# Altium footprint library AMP Footprints.PcbLib: 903 footprints (part 38 of 58)
Each footprint in its own frame and in the unit in brackets; x right, y up, seen from the top. Pads: shape width x height; smd on the part's side, far side on the other; paste and mask are expansions set on the pad; w line width, h text height; cw(c..) or ccw(c..) is an arc to the next point about the centre after c.
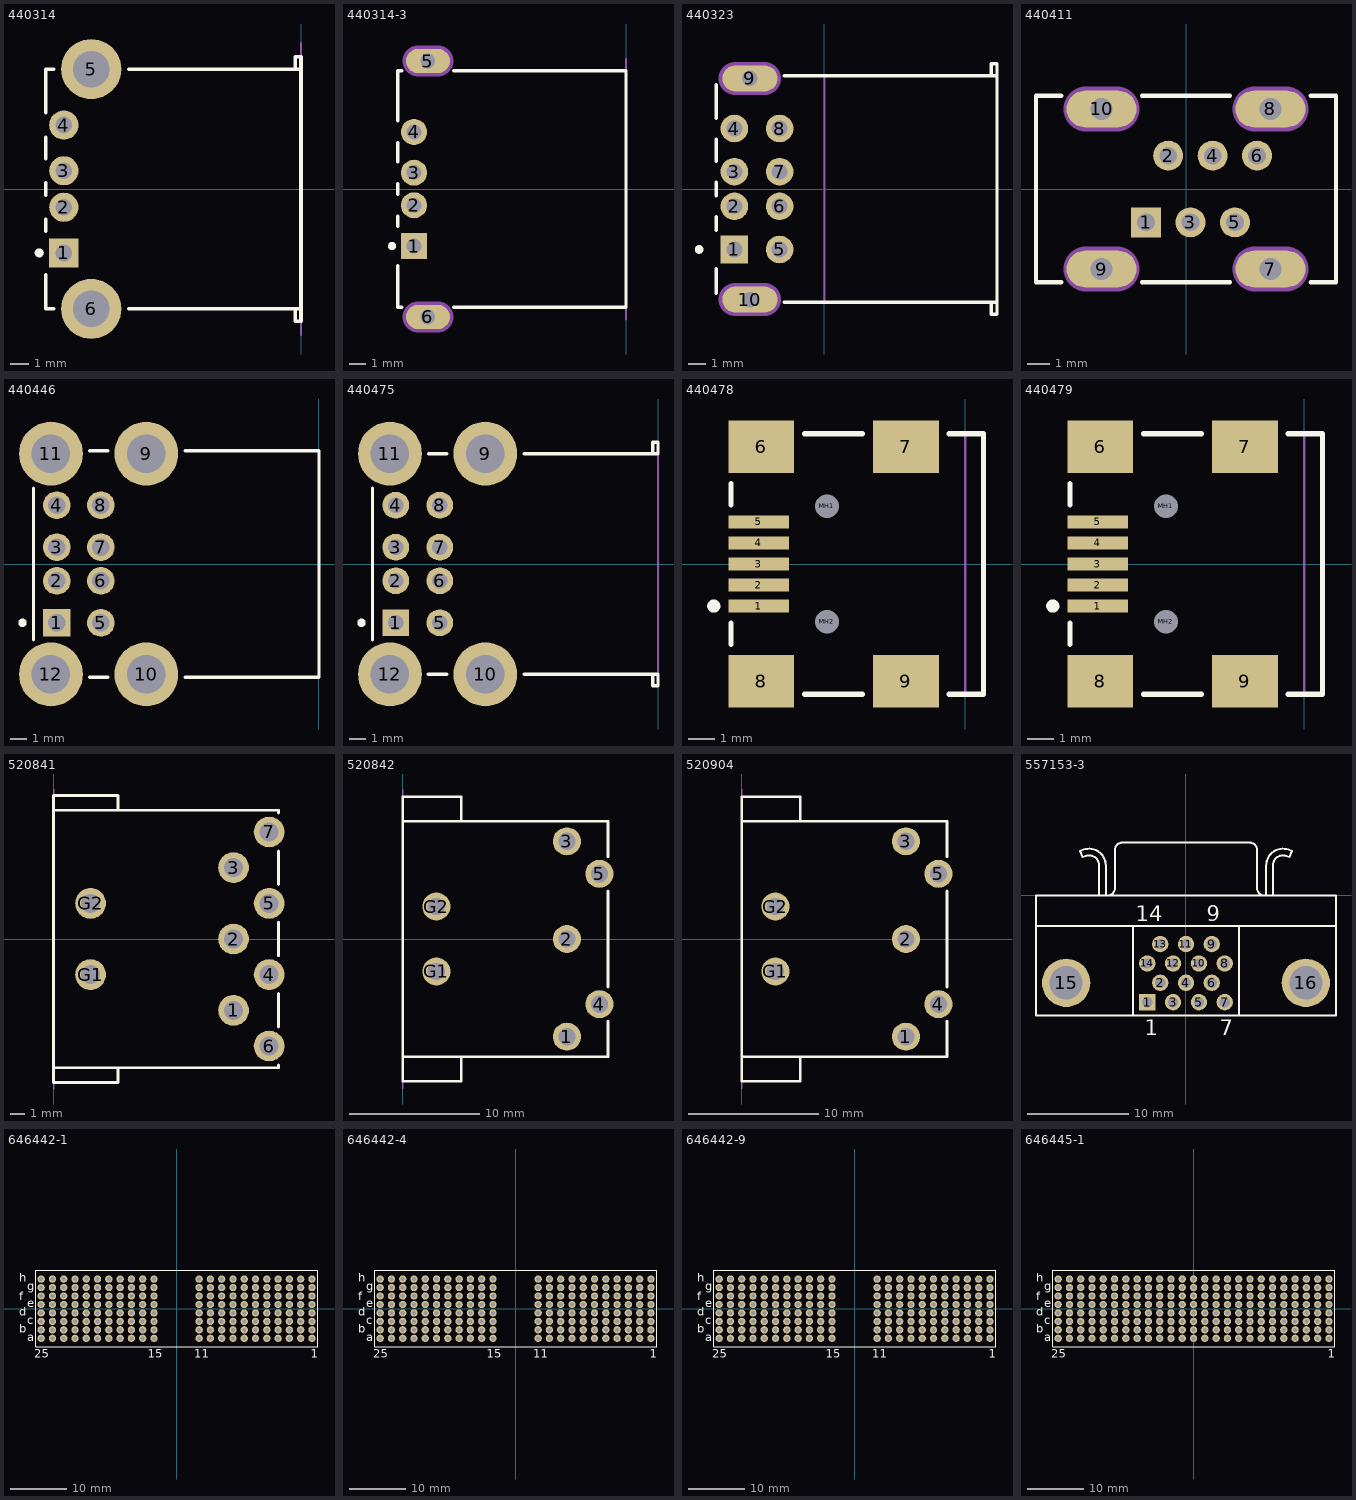
[diagram p37: the footprints below, top view; thin cyan lines are the x and y axes]

## 440314 [mm] "Connector; USB1.1, Series A, Reverse Type, Thru-Hole; 4 Position; Right Angle"
height 6.5
pads (6):
  rect 1.6x1.6 hole 0.92: 1(-13,-3.5)
  round 1.6 hole 0.92: 2(-13,-1) 3(-13,1) 4(-13,3.5)
  round 3.3 hole 2: 5(-11.5,6.57) 6(-11.5,-6.57)
Top Overlay:
  circle w0.25: c-14.35,-3.5 r0.125
  lines w0.2: -14,-4.7 -14,-6.565 -13.55,-6.565 ; -14,-2.3 -14,-1.67 ; -14,-0.33 -14,0.33 ; -14,1.67 -14,2.83 ; -14,4.17 -14,6.565 -13.55,6.565 ; -9.45,-6.565 0,-6.565 ; -9.45,6.565 0,6.565 ; -0.32,-6.565 -0.32,-7.25 0,-7.25 0,-6.565 ; -0.32,6.565 -0.32,7.25 0,7.25 0,6.565 ; 0,-6.565 0,6.565
Mechanical 1:
  lines w0.1: 0,-8 0,8
  text "PCB Edge" at -0.336,-6.303 h0.25

## 440314-3 [mm] "Connector; USB1.1, Series A, Reverse Type, Thru-Hole; 4 Position; Right Angle"
height 6.5
pads (6):
  rect 1.6x1.6 hole 0.92: 1(-13,-3.5)
  round 1.6 hole 0.92: 2(-13,-1) 3(-13,1) 4(-13,3.5)
  oval 2.7x1.5 hole 0.9: 5(-12.15,7.85) 6(-12.15,-7.85)
Top Overlay:
  circle w0.25: c-14.35,-3.5 r0.125
  lines w0.2: -14,-4.7 -14,-7.25 -13.74,-7.25 ; -14,-2.3 -14,-1.67 ; -14,-0.33 -14,0.33 ; -14,1.67 -14,2.83 ; -14,4.17 -14,7.25 -13.74,7.25 ; -10.56,-7.25 0,-7.25 0,7.25 -10.56,7.25
Mechanical 1:
  lines w0.1: 0,-8 0,8
  lines w0.9: -12.75,-7.85 -12.15,-7.85 -11.55,-7.85 ; -12.75,7.85 -11.55,7.85
  text "Mech 2 - Clearance, move to internal plane if present" at -14,9.167 h0.3
  text "Mech 1 - Slot cut-out" at -14,9.667 h0.3
  text "Assign keep-out area to slot" at -14,11.167 h0.3
  text "Slot 0.9x2.1mm, PTH" at -14,10.167 h0.3
  text "Alert PCB fab to slot details" at -14,10.667 h0.3
  text "PCB Edge" at -0.324,-6.966 h0.25
Mechanical 2:
  lines w1.916: -12.75,-7.85 -11.55,-7.85 ; -12.75,7.85 -11.55,7.85

## 440323 [mm] "Connector; USB1.1, Type A, Thru-Hole; 4x4 Position; Right Angle"
height 15.51
pads (10):
  rect 1.6x1.6 hole 0.92: 1(-5.21,-3.5)
  round 1.6 hole 0.92: 2(-5.21,-1) 3(-5.21,1) 4(-5.21,3.5) 5(-2.59,-3.5) 6(-2.59,-1) 7(-2.59,1) 8(-2.59,3.5)
  oval 3.2x1.5 hole 0.9: 9(-4.31,6.4) 10(-4.31,-6.4)
Top Overlay:
  circle w0.25: c-7.25,-3.5 r0.125
  lines w0.2: -6.25,-6.03 -6.25,-4.62 ; -6.25,-2.38 -6.25,-1.61 ; -6.25,-0.4 -6.25,0.4 ; -6.25,1.61 -6.25,2.88 ; -6.25,4.1 -6.25,6.03 ; -2.32,-6.55 9.99,-6.55 ; -2.32,6.55 9.99,6.55 ; 9.67,-6.55 9.67,-7.25 9.99,-7.25 9.99,-6.55 ; 9.67,6.55 9.67,7.25 9.99,7.25 9.99,6.55 ; 9.99,-6.55 9.99,6.55
Mechanical 1:
  lines w0.1: 0,-6.55 0,6.55
  lines w0.9: -5.16,-6.4 -3.46,-6.4 ; -5.16,6.4 -3.46,6.4
  text "PCB Edge" at 0.347,-6.248 h0.2
  text "Alert PCB fab to slot details" at -6.16,9.217 h0.3
  text "Slot 0.9x2.6mm, PTH" at -6.16,8.717 h0.3
  text "Assign keep-out area to slot" at -6.16,9.717 h0.3
  text "Mech 1 - Slot cut-out" at -6.16,8.217 h0.3
  text "Mech 2 - Clearance, move to internal plane if present" at -6.16,7.717 h0.3
Mechanical 2:
  lines w1.916: -5.16,-6.4 -3.46,-6.4 ; -5.16,6.4 -3.46,6.4

## 440411 [mm] "Connector; IEEE1394, Thru-Hole; 6 Position; Vertical"
height 16.5
pads (10):
  rect 1.35x1.35 hole 0.8: 1(-1.8,-1.5)
  round 1.35 hole 0.8: 2(-0.8,1.5) 3(0.2,-1.5) 4(1.2,1.5) 5(2.2,-1.5) 6(3.2,1.5)
  oval 3.15x1.65 hole 1: 7(3.8,-3.6) 8(3.8,3.6) 9(-3.8,-3.6) 10(-3.8,3.6)
Top Overlay:
  lines w0.2: -5.62,-4.2 -6.75,-4.2 -6.75,4.2 -5.62,4.2 ; -1.98,-4.2 1.98,-4.2 ; -1.98,4.2 1.98,4.2 ; 5.62,-4.2 6.75,-4.2 6.75,4.2 5.62,4.2
Mechanical 1:
  lines w1: -4.5,-3.6 -3.1,-3.6 ; -4.5,3.6 -3.1,3.6 ; 3.1,-3.6 4.5,-3.6 ; 3.1,3.6 4.5,3.6
  text "Alert PCB fab to slot details" at -6.877,6.395 h0.3
  text "Slot 1x2.5mm, PTH" at -6.876,5.895 h0.3
  text "Assign keep-out area to slot" at -6.877,6.895 h0.3
  text "Mech 1 - Slot cut-out" at -6.877,5.395 h0.3
  text "Mech 2 - Clearance, move to internal plane if present" at -6.877,4.895 h0.3
Mechanical 2:
  lines w2.016: -4.5,-3.6 -3.1,-3.6 ; -4.5,3.6 -3.1,3.6 ; 3.1,-3.6 4.5,-3.6 ; 3.1,3.6 4.5,3.6

## 440446 [mm] "Connector; USB1.1, Type A, Thru-Hole; 4x4 Position; Right Angle"
height 15.82
pads (12):
  rect 1.65x1.65 hole 1.02: 1(-15.6,-3.5)
  round 1.65 hole 1.02: 2(-15.6,-1) 3(-15.6,1) 4(-15.6,3.5) 5(-12.98,-3.5) 6(-12.98,-1) 7(-12.98,1) 8(-12.98,3.5)
  round 3.8 hole 2.3: 9(-10.27,6.57) 10(-10.27,-6.57) 11(-15.95,6.57) 12(-15.95,-6.57)
Top Overlay:
  circle w0.25: c-17.64,-3.5 r0.125
  lines w0.2: -16.99,-4.51 -16.99,4.51 ; -13.65,-6.75 -12.57,-6.75 ; -13.65,6.75 -12.57,6.75 ; -7.97,-6.75 0.01,-6.75 0.01,6.75 -7.97,6.75

## 440475 [mm] "Connector; USB1.1, Type A, Thru-Hole; 4x4 Position; Right Angle"
height 15.82
pads (12):
  rect 1.6x1.6 hole 0.92: 1(-15.61,-3.5)
  round 1.6 hole 0.92: 2(-15.61,-1) 3(-15.61,1) 4(-15.61,3.5) 5(-12.99,-3.5) 6(-12.99,-1) 7(-12.99,1) 8(-12.99,3.5)
  round 3.8 hole 2.3: 9(-10.28,6.57) 10(-10.28,-6.57) 11(-15.96,6.57) 12(-15.96,-6.57)
Top Overlay:
  circle w0.25: c-17.65,-3.5 r0.125
  lines w0.2: -17,-4.51 -17,4.51 ; -13.68,-6.57 -12.58,-6.57 ; -13.66,6.57 -12.58,6.57 ; -7.97,-6.57 0,-6.57 0,-7.25 -0.32,-7.25 -0.32,-6.57 ; -7.97,6.57 0,6.57 0,7.25 -0.32,7.25 -0.32,6.57
Mechanical 1:
  lines w0.1: 0,-6.57 0,6.57
  text "PCB Edge" at -0.368,-6.15 h0.2

## 440478 [mm] "Connector; USB2.0, Type A, SM; 5 Position; Right Angle"
height 3.9
pads (11):
  rect 2.3x0.5 smd: 1(-7.85,-1.6) 2(-7.85,-0.8) 3(-7.85,0) 4(-7.85,0.8) 5(-7.85,1.6)
  rect 2.5x2 smd: 6(-7.75,4.45) 7(-2.25,4.45) 8(-7.75,-4.45) 9(-2.25,-4.45)
  round 0.6 hole 0.9 unplated: MH1(-5.25,2.2) MH2(-5.25,-2.2)
Top Overlay:
  circle w0.25: c-9.55,-1.6 r0.125
  lines w0.2: -8.9,-3.05 -8.9,-2.25 ; -8.9,2.25 -8.9,3.05 ; -6.1,-4.95 -3.9,-4.95 ; -6.1,4.95 -3.9,4.95 ; -0.6,-4.95 0.7,-4.95 0.7,4.95 -0.6,4.95
Mechanical 1:
  lines w0.1: 0,-4.95 0,4.95
  text "PCB Edge" at 0.432,-4.036 h0.25

## 440479 [mm] "Connector; USB2.0, Type AB, SM; 5 Position; Right Angle"
height 3.9
pads (11):
  rect 2.3x0.5 smd: 1(-7.85,-1.6) 2(-7.85,-0.8) 3(-7.85,0) 4(-7.85,0.8) 5(-7.85,1.6)
  rect 2.5x2 smd: 6(-7.75,4.45) 7(-2.25,4.45) 8(-7.75,-4.45) 9(-2.25,-4.45)
  round 0.6 hole 0.9 unplated: MH1(-5.25,2.2) MH2(-5.25,-2.2)
Top Overlay:
  circle w0.25: c-9.55,-1.6 r0.125
  lines w0.2: -8.9,-3.05 -8.9,-2.25 ; -8.9,2.25 -8.9,3.05 ; -6.1,-4.95 -3.9,-4.95 ; -6.1,4.95 -3.9,4.95 ; -0.6,-4.95 0.7,-4.95 0.7,4.95 -0.6,4.95
Mechanical 1:
  lines w0.1: 0,-4.95 0,4.95
  text "PCB Edge" at 0.432,-4.036 h0.25

## 520841 [mm] "Connector; Circular DIN, Thru-Hole; 7 Position; Right Angle; Pitch 2.49/2.51 mm; Body 18.03 x 15.75 x 20.83 mm (WxTxH), Shielded"
height 20.83
pads (9):
  round 2.15 hole 1.32: 1(12.6,-5) 2(12.6,0) 3(12.6,5) 4(15.09,-2.49) 5(15.09,2.49) 6(15.09,-7.49) 7(15.09,7.49) G1(2.59,-2.49) G2(2.59,2.49)
Top Overlay:
  lines w0.2: 4.5,-9.015 4.5,-10.035 0,-10.035 0,-9.015 ; 4.5,9.015 4.5,10.035 0,10.035 0,9.015 ; 15.75,-8.81 15.75,-9.015 0,-9.015 ; 15.75,-6.17 15.75,-3.81 ; 15.75,-1.17 15.75,1.17 ; 15.75,3.81 15.75,6.17 ; 15.75,8.81 15.75,9.015 0,9.015 ; 0,-9.015 0,9.015
Mechanical 1:
  lines w0.1: 0,-10.5 0,10.5
  text "PCB Edge" at 0.6,-8.6 h0.25

## 520842 [mm] "Connector; Circular DIN, Thru-Hole; 5 Position; Right Angle; Pitch 2.49/2.51 mm; Body 18.03 x 15.75 x 20.83 mm (WxTxH), Shielded"
height 20.83
pads (7):
  round 2.15 hole 1.32: 1(12.6,-7.49) 2(12.6,0) 3(12.6,7.49) 4(15.09,-5) 5(15.09,5) G1(2.59,-2.49) G2(2.59,2.49)
Top Overlay:
  lines w0.2: 4.5,-9.015 4.5,-10.92 0,-10.92 0,-9.015 ; 4.5,9.015 4.5,10.92 0,10.92 0,9.015 ; 15.75,-6.32 15.75,-9.015 0,-9.015 ; 15.75,-3.68 15.75,3.68 ; 15.75,6.32 15.75,9.015 0,9.015 ; 0,-9.015 0,9.015
Mechanical 1:
  lines w0.1: 0,-11.5 0,11.5
  text "PCB Edge" at 0.6,-8.6 h0.25

## 520904 [mm] "Connector; Circular DIN, Thru-Hole; 5 Position; Right Angle; Pitch 2.49/2.51 mm; Body 18.03 x 15.75 x 20.83 mm (WxTxH), Shielded"
height 20.83
pads (7):
  round 2.15 hole 1.32: 1(12.6,-7.49) 2(12.6,0) 3(12.6,7.49) 4(15.09,-5) 5(15.09,5) G1(2.59,-2.49) G2(2.59,2.49)
Top Overlay:
  lines w0.2: 4.5,-9.015 4.5,-10.92 0,-10.92 0,-9.015 ; 4.5,9.015 4.5,10.92 0,10.92 0,9.015 ; 15.75,-6.32 15.75,-9.015 0,-9.015 ; 15.75,-3.68 15.75,3.68 ; 15.75,6.32 15.75,9.015 0,9.015 ; 0,-9.015 0,9.015
Mechanical 1:
  lines w0.1: 0,-11.5 0,11.5
  text "PCB Edge" at 0.6,-8.6 h0.25

## 557153-3 [mm] "Connector; CHAMP Miniature Ribbon 050 Series II; 14 Position; Right Angle"
height 10.2
pads (16):
  rect 1.61x1.61 hole 1.01: 1(-3.81,-10.505)
  round 1.61 hole 1.01: 2(-2.54,-8.6) 3(-1.27,-10.505) 4(0,-8.6) 5(1.27,-10.505) 6(2.54,-8.6) 7(3.81,-10.505) 8(3.81,-6.695) 9(2.54,-4.79) 10(1.27,-6.695) 11(0,-4.79) 12(-1.27,-6.695) 13(-2.54,-4.79) 14(-3.81,-6.695)
  round 4.76 hole 3.26: 15(-11.8,-8.6) 16(11.8,-8.6)
Top Overlay:
  lines w0.2: -14.77,-3 14.77,-3 ; -10.21,3.79 -10.45,4.4 -10.115,4.503 cw(c-9.55,2.95) -7.897,2.95 ; -10.2,3.8 -9.85,3.9 ; -9.892,3.891 cw(c-9.55,2.95) -8.549,2.95 -8.549,0 ; -7.9,0 -7.9,2.95 ; -7.695,0.005 ccw(c-7.695,0.7) -7,0.7 -7,4.5 ; -6.995,4.505 cw(c-6.3,4.505) -6.3,5.2 6.3,5.2 cw(c6.3,4.505) 6.995,4.505 ; -5.2,-11.8 -5.2,-3 ; 5.2,-11.8 5.2,-3 ; 7,4.5 7,0.7 ccw(c7.695,0.7) 7.695,0.005 ; 7.897,2.95 cw(c9.55,2.95) 10.115,4.503 10.45,4.4 10.21,3.79 ; 7.9,0 7.9,2.95 ; 8.549,0 8.549,2.95 cw(c9.55,2.95) 9.892,3.891 ; 9.85,3.9 10.2,3.8 ; -14.77,-11.8 -14.77,0 14.77,0 14.77,-11.8 -14.77,-11.8
  text "1" at -4.06,-13.775 h1.5
  text "7" at 3.31,-13.775 h1.5
  text "14" at -4.935,-2.525 h1.5
  text "9" at 2.04,-2.525 h1.5

## 646442-1 [mm] "Connector; CompactPCI; 176 Position; Right Angle"
height 14.2
pads (176):
  round 1.3 hole 0.7: A1(24,-5.25) A2(22,-5.25) A3(20,-5.25) A4(18,-5.25) A5(16,-5.25) A6(14,-5.25) A7(12,-5.25) A8(10,-5.25) A9(8,-5.25) A10(6,-5.25) A11(4,-5.25) A15(-4,-5.25) A16(-6,-5.25) A17(-8,-5.25) A18(-10,-5.25) A19(-12,-5.25) A20(-14,-5.25) A21(-16,-5.25) A22(-18,-5.25) A23(-20,-5.25) A24(-22,-5.25) A25(-24,-5.25) B1(24,-3.75) B2(22,-3.75) B3(20,-3.75) B4(18,-3.75) B5(16,-3.75) B6(14,-3.75) B7(12,-3.75) B8(10,-3.75) B9(8,-3.75) B10(6,-3.75) B11(4,-3.75) B15(-4,-3.75) B16(-6,-3.75) B17(-8,-3.75) B18(-10,-3.75) B19(-12,-3.75) B20(-14,-3.75) B21(-16,-3.75) B22(-18,-3.75) B23(-20,-3.75) B24(-22,-3.75) B25(-24,-3.75) C1(24,-2.25) C2(22,-2.25) C3(20,-2.25) C4(18,-2.25) C5(16,-2.25) C6(14,-2.25) C7(12,-2.25) C8(10,-2.25) C9(8,-2.25) C10(6,-2.25) C11(4,-2.25) C15(-4,-2.25) C16(-6,-2.25) C17(-8,-2.25) C18(-10,-2.25) C19(-12,-2.25) C20(-14,-2.25) C21(-16,-2.25) C22(-18,-2.25) C23(-20,-2.25) C24(-22,-2.25) C25(-24,-2.25) D1(24,-0.75) D2(22,-0.75) D3(20,-0.75) D4(18,-0.75) D5(16,-0.75) D6(14,-0.75) D7(12,-0.75) D8(10,-0.75) D9(8,-0.75) D10(6,-0.75) D11(4,-0.75) D15(-4,-0.75) D16(-6,-0.75) D17(-8,-0.75) D18(-10,-0.75) D19(-12,-0.75) D20(-14,-0.75) D21(-16,-0.75) D22(-18,-0.75) D23(-20,-0.75) D24(-22,-0.75) D25(-24,-0.75) E1(24,0.75) E2(22,0.75) E3(20,0.75) E4(18,0.75) E5(16,0.75) E6(14,0.75) E7(12,0.75) E8(10,0.75) E9(8,0.75) E10(6,0.75) E11(4,0.75) E15(-4,0.75) E16(-6,0.75) E17(-8,0.75) E18(-10,0.75) E19(-12,0.75) E20(-14,0.75) E21(-16,0.75) E22(-18,0.75) E23(-20,0.75) E24(-22,0.75) E25(-24,0.75) F1(24,2.25) F2(22,2.25) F3(20,2.25) F4(18,2.25) F5(16,2.25) F6(14,2.25) F7(12,2.25) F8(10,2.25) F9(8,2.25) F10(6,2.25) F11(4,2.25) F15(-4,2.25) F16(-6,2.25) F17(-8,2.25) F18(-10,2.25) F19(-12,2.25) F20(-14,2.25) F21(-16,2.25) F22(-18,2.25) F23(-20,2.25) F24(-22,2.25) F25(-24,2.25) G1(24,3.75) G2(22,3.75) G3(20,3.75) G4(18,3.75) G5(16,3.75) G6(14,3.75) G7(12,3.75) G8(10,3.75) G9(8,3.75) G10(6,3.75) G11(4,3.75) G15(-4,3.75) G16(-6,3.75) G17(-8,3.75) G18(-10,3.75) G19(-12,3.75) G20(-14,3.75) G21(-16,3.75) G22(-18,3.75) G23(-20,3.75) G24(-22,3.75) G25(-24,3.75) H1(24,5.25) H2(22,5.25) H3(20,5.25) H4(18,5.25) H5(16,5.25) H6(14,5.25) H7(12,5.25) H8(10,5.25) H9(8,5.25) H10(6,5.25) H11(4,5.25) H15(-4,5.25) H16(-6,5.25) H17(-8,5.25) H18(-10,5.25) H19(-12,5.25) H20(-14,5.25) H21(-16,5.25) H22(-18,5.25) H23(-20,5.25) H24(-22,5.25) H25(-24,5.25)
Top Overlay:
  lines w0.2: -25,-6.75 -25,6.85 25,6.85 25,-6.75 -25,-6.75
  text "a" at -26.475,-5.75 h1.5
  text "b" at -27.925,-4.25 h1.5
  text "c" at -26.475,-2.75 h1.5
  text "e" at -26.475,0.25 h1.5
  text "g" at -26.475,3.237 h1.5
  text "d" at -27.925,-1.25 h1.5
  text "f" at -27.925,1.475 h1.5
  text "h" at -27.925,4.75 h1.5
  text "11" at 3.125,-8.725 h1.5
  text "1" at 23.75,-8.725 h1.5
  text "15" at -5.125,-8.725 h1.5
  text "25" at -25.25,-8.725 h1.5

## 646442-4 [mm] "Connector; CompactPCI; 176 Position; Right Angle"
height 14.2
pads (176):
  round 1.3 hole 0.7: A1(24,-5.25) A2(22,-5.25) A3(20,-5.25) A4(18,-5.25) A5(16,-5.25) A6(14,-5.25) A7(12,-5.25) A8(10,-5.25) A9(8,-5.25) A10(6,-5.25) A11(4,-5.25) A15(-4,-5.25) A16(-6,-5.25) A17(-8,-5.25) A18(-10,-5.25) A19(-12,-5.25) A20(-14,-5.25) A21(-16,-5.25) A22(-18,-5.25) A23(-20,-5.25) A24(-22,-5.25) A25(-24,-5.25) B1(24,-3.75) B2(22,-3.75) B3(20,-3.75) B4(18,-3.75) B5(16,-3.75) B6(14,-3.75) B7(12,-3.75) B8(10,-3.75) B9(8,-3.75) B10(6,-3.75) B11(4,-3.75) B15(-4,-3.75) B16(-6,-3.75) B17(-8,-3.75) B18(-10,-3.75) B19(-12,-3.75) B20(-14,-3.75) B21(-16,-3.75) B22(-18,-3.75) B23(-20,-3.75) B24(-22,-3.75) B25(-24,-3.75) C1(24,-2.25) C2(22,-2.25) C3(20,-2.25) C4(18,-2.25) C5(16,-2.25) C6(14,-2.25) C7(12,-2.25) C8(10,-2.25) C9(8,-2.25) C10(6,-2.25) C11(4,-2.25) C15(-4,-2.25) C16(-6,-2.25) C17(-8,-2.25) C18(-10,-2.25) C19(-12,-2.25) C20(-14,-2.25) C21(-16,-2.25) C22(-18,-2.25) C23(-20,-2.25) C24(-22,-2.25) C25(-24,-2.25) D1(24,-0.75) D2(22,-0.75) D3(20,-0.75) D4(18,-0.75) D5(16,-0.75) D6(14,-0.75) D7(12,-0.75) D8(10,-0.75) D9(8,-0.75) D10(6,-0.75) D11(4,-0.75) D15(-4,-0.75) D16(-6,-0.75) D17(-8,-0.75) D18(-10,-0.75) D19(-12,-0.75) D20(-14,-0.75) D21(-16,-0.75) D22(-18,-0.75) D23(-20,-0.75) D24(-22,-0.75) D25(-24,-0.75) E1(24,0.75) E2(22,0.75) E3(20,0.75) E4(18,0.75) E5(16,0.75) E6(14,0.75) E7(12,0.75) E8(10,0.75) E9(8,0.75) E10(6,0.75) E11(4,0.75) E15(-4,0.75) E16(-6,0.75) E17(-8,0.75) E18(-10,0.75) E19(-12,0.75) E20(-14,0.75) E21(-16,0.75) E22(-18,0.75) E23(-20,0.75) E24(-22,0.75) E25(-24,0.75) F1(24,2.25) F2(22,2.25) F3(20,2.25) F4(18,2.25) F5(16,2.25) F6(14,2.25) F7(12,2.25) F8(10,2.25) F9(8,2.25) F10(6,2.25) F11(4,2.25) F15(-4,2.25) F16(-6,2.25) F17(-8,2.25) F18(-10,2.25) F19(-12,2.25) F20(-14,2.25) F21(-16,2.25) F22(-18,2.25) F23(-20,2.25) F24(-22,2.25) F25(-24,2.25) G1(24,3.75) G2(22,3.75) G3(20,3.75) G4(18,3.75) G5(16,3.75) G6(14,3.75) G7(12,3.75) G8(10,3.75) G9(8,3.75) G10(6,3.75) G11(4,3.75) G15(-4,3.75) G16(-6,3.75) G17(-8,3.75) G18(-10,3.75) G19(-12,3.75) G20(-14,3.75) G21(-16,3.75) G22(-18,3.75) G23(-20,3.75) G24(-22,3.75) G25(-24,3.75) H1(24,5.25) H2(22,5.25) H3(20,5.25) H4(18,5.25) H5(16,5.25) H6(14,5.25) H7(12,5.25) H8(10,5.25) H9(8,5.25) H10(6,5.25) H11(4,5.25) H15(-4,5.25) H16(-6,5.25) H17(-8,5.25) H18(-10,5.25) H19(-12,5.25) H20(-14,5.25) H21(-16,5.25) H22(-18,5.25) H23(-20,5.25) H24(-22,5.25) H25(-24,5.25)
Top Overlay:
  lines w0.2: -25,-6.75 -25,6.85 25,6.85 25,-6.75 -25,-6.75
  text "a" at -26.475,-5.75 h1.5
  text "b" at -27.925,-4.25 h1.5
  text "c" at -26.475,-2.75 h1.5
  text "e" at -26.475,0.25 h1.5
  text "g" at -26.475,3.237 h1.5
  text "d" at -27.925,-1.25 h1.5
  text "f" at -27.925,1.475 h1.5
  text "h" at -27.925,4.75 h1.5
  text "11" at 3.125,-8.725 h1.5
  text "1" at 23.75,-8.725 h1.5
  text "15" at -5.125,-8.725 h1.5
  text "25" at -25.25,-8.725 h1.5

## 646442-9 [mm] "Connector; CompactPCI; 176 Position; Right Angle"
height 14.2
pads (176):
  round 1.3 hole 0.7: A1(24,-5.25) A2(22,-5.25) A3(20,-5.25) A4(18,-5.25) A5(16,-5.25) A6(14,-5.25) A7(12,-5.25) A8(10,-5.25) A9(8,-5.25) A10(6,-5.25) A11(4,-5.25) A15(-4,-5.25) A16(-6,-5.25) A17(-8,-5.25) A18(-10,-5.25) A19(-12,-5.25) A20(-14,-5.25) A21(-16,-5.25) A22(-18,-5.25) A23(-20,-5.25) A24(-22,-5.25) A25(-24,-5.25) B1(24,-3.75) B2(22,-3.75) B3(20,-3.75) B4(18,-3.75) B5(16,-3.75) B6(14,-3.75) B7(12,-3.75) B8(10,-3.75) B9(8,-3.75) B10(6,-3.75) B11(4,-3.75) B15(-4,-3.75) B16(-6,-3.75) B17(-8,-3.75) B18(-10,-3.75) B19(-12,-3.75) B20(-14,-3.75) B21(-16,-3.75) B22(-18,-3.75) B23(-20,-3.75) B24(-22,-3.75) B25(-24,-3.75) C1(24,-2.25) C2(22,-2.25) C3(20,-2.25) C4(18,-2.25) C5(16,-2.25) C6(14,-2.25) C7(12,-2.25) C8(10,-2.25) C9(8,-2.25) C10(6,-2.25) C11(4,-2.25) C15(-4,-2.25) C16(-6,-2.25) C17(-8,-2.25) C18(-10,-2.25) C19(-12,-2.25) C20(-14,-2.25) C21(-16,-2.25) C22(-18,-2.25) C23(-20,-2.25) C24(-22,-2.25) C25(-24,-2.25) D1(24,-0.75) D2(22,-0.75) D3(20,-0.75) D4(18,-0.75) D5(16,-0.75) D6(14,-0.75) D7(12,-0.75) D8(10,-0.75) D9(8,-0.75) D10(6,-0.75) D11(4,-0.75) D15(-4,-0.75) D16(-6,-0.75) D17(-8,-0.75) D18(-10,-0.75) D19(-12,-0.75) D20(-14,-0.75) D21(-16,-0.75) D22(-18,-0.75) D23(-20,-0.75) D24(-22,-0.75) D25(-24,-0.75) E1(24,0.75) E2(22,0.75) E3(20,0.75) E4(18,0.75) E5(16,0.75) E6(14,0.75) E7(12,0.75) E8(10,0.75) E9(8,0.75) E10(6,0.75) E11(4,0.75) E15(-4,0.75) E16(-6,0.75) E17(-8,0.75) E18(-10,0.75) E19(-12,0.75) E20(-14,0.75) E21(-16,0.75) E22(-18,0.75) E23(-20,0.75) E24(-22,0.75) E25(-24,0.75) F1(24,2.25) F2(22,2.25) F3(20,2.25) F4(18,2.25) F5(16,2.25) F6(14,2.25) F7(12,2.25) F8(10,2.25) F9(8,2.25) F10(6,2.25) F11(4,2.25) F15(-4,2.25) F16(-6,2.25) F17(-8,2.25) F18(-10,2.25) F19(-12,2.25) F20(-14,2.25) F21(-16,2.25) F22(-18,2.25) F23(-20,2.25) F24(-22,2.25) F25(-24,2.25) G1(24,3.75) G2(22,3.75) G3(20,3.75) G4(18,3.75) G5(16,3.75) G6(14,3.75) G7(12,3.75) G8(10,3.75) G9(8,3.75) G10(6,3.75) G11(4,3.75) G15(-4,3.75) G16(-6,3.75) G17(-8,3.75) G18(-10,3.75) G19(-12,3.75) G20(-14,3.75) G21(-16,3.75) G22(-18,3.75) G23(-20,3.75) G24(-22,3.75) G25(-24,3.75) H1(24,5.25) H2(22,5.25) H3(20,5.25) H4(18,5.25) H5(16,5.25) H6(14,5.25) H7(12,5.25) H8(10,5.25) H9(8,5.25) H10(6,5.25) H11(4,5.25) H15(-4,5.25) H16(-6,5.25) H17(-8,5.25) H18(-10,5.25) H19(-12,5.25) H20(-14,5.25) H21(-16,5.25) H22(-18,5.25) H23(-20,5.25) H24(-22,5.25) H25(-24,5.25)
Top Overlay:
  lines w0.2: -25,-6.75 -25,6.85 25,6.85 25,-6.75 -25,-6.75
  text "a" at -26.475,-5.75 h1.5
  text "b" at -27.925,-4.25 h1.5
  text "c" at -26.475,-2.75 h1.5
  text "e" at -26.475,0.25 h1.5
  text "g" at -26.475,3.237 h1.5
  text "d" at -27.925,-1.25 h1.5
  text "f" at -27.925,1.475 h1.5
  text "h" at -27.925,4.75 h1.5
  text "11" at 3.125,-8.725 h1.5
  text "1" at 23.75,-8.725 h1.5
  text "15" at -5.125,-8.725 h1.5
  text "25" at -25.25,-8.725 h1.5

## 646445-1 [mm] "Connector; CompactPCI; 200 Position; Right Angle"
height 13.7
pads (200):
  round 1.3 hole 0.7: A1(24,-5.25) A2(22,-5.25) A3(20,-5.25) A4(18,-5.25) A5(16,-5.25) A6(14,-5.25) A7(12,-5.25) A8(10,-5.25) A9(8,-5.25) A10(6,-5.25) A11(4,-5.25) A12(2,-5.25) A13(0,-5.25) A14(-2,-5.25) A15(-4,-5.25) A16(-6,-5.25) A17(-8,-5.25) A18(-10,-5.25) A19(-12,-5.25) A20(-14,-5.25) A21(-16,-5.25) A22(-18,-5.25) A23(-20,-5.25) A24(-22,-5.25) A25(-24,-5.25) B1(24,-3.75) B2(22,-3.75) B3(20,-3.75) B4(18,-3.75) B5(16,-3.75) B6(14,-3.75) B7(12,-3.75) B8(10,-3.75) B9(8,-3.75) B10(6,-3.75) B11(4,-3.75) B12(2,-3.75) B13(0,-3.75) B14(-2,-3.75) B15(-4,-3.75) B16(-6,-3.75) B17(-8,-3.75) B18(-10,-3.75) B19(-12,-3.75) B20(-14,-3.75) B21(-16,-3.75) B22(-18,-3.75) B23(-20,-3.75) B24(-22,-3.75) B25(-24,-3.75) C1(24,-2.25) C2(22,-2.25) C3(20,-2.25) C4(18,-2.25) C5(16,-2.25) C6(14,-2.25) C7(12,-2.25) C8(10,-2.25) C9(8,-2.25) C10(6,-2.25) C11(4,-2.25) C12(2,-2.25) C13(0,-2.25) C14(-2,-2.25) C15(-4,-2.25) C16(-6,-2.25) C17(-8,-2.25) C18(-10,-2.25) C19(-12,-2.25) C20(-14,-2.25) C21(-16,-2.25) C22(-18,-2.25) C23(-20,-2.25) C24(-22,-2.25) C25(-24,-2.25) D1(24,-0.75) D2(22,-0.75) D3(20,-0.75) D4(18,-0.75) D5(16,-0.75) D6(14,-0.75) D7(12,-0.75) D8(10,-0.75) D9(8,-0.75) D10(6,-0.75) D11(4,-0.75) D12(2,-0.75) D13(0,-0.75) D14(-2,-0.75) D15(-4,-0.75) D16(-6,-0.75) D17(-8,-0.75) D18(-10,-0.75) D19(-12,-0.75) D20(-14,-0.75) D21(-16,-0.75) D22(-18,-0.75) D23(-20,-0.75) D24(-22,-0.75) D25(-24,-0.75) E1(24,0.75) E2(22,0.75) E3(20,0.75) E4(18,0.75) E5(16,0.75) E6(14,0.75) E7(12,0.75) E8(10,0.75) E9(8,0.75) E10(6,0.75) E11(4,0.75) E12(2,0.75) E13(0,0.75) E14(-2,0.75) E15(-4,0.75) E16(-6,0.75) E17(-8,0.75) E18(-10,0.75) E19(-12,0.75) E20(-14,0.75) E21(-16,0.75) E22(-18,0.75) E23(-20,0.75) E24(-22,0.75) E25(-24,0.75) F1(24,2.25) F2(22,2.25) F3(20,2.25) F4(18,2.25) F5(16,2.25) F6(14,2.25) F7(12,2.25) F8(10,2.25) F9(8,2.25) F10(6,2.25) F11(4,2.25) F12(2,2.25) F13(0,2.25) F14(-2,2.25) F15(-4,2.25) F16(-6,2.25) F17(-8,2.25) F18(-10,2.25) F19(-12,2.25) F20(-14,2.25) F21(-16,2.25) F22(-18,2.25) F23(-20,2.25) F24(-22,2.25) F25(-24,2.25) G1(24,3.75) G2(22,3.75) G3(20,3.75) G4(18,3.75) G5(16,3.75) G6(14,3.75) G7(12,3.75) G8(10,3.75) G9(8,3.75) G10(6,3.75) G11(4,3.75) G12(2,3.75) G13(0,3.75) G14(-2,3.75) G15(-4,3.75) G16(-6,3.75) G17(-8,3.75) G18(-10,3.75) G19(-12,3.75) G20(-14,3.75) G21(-16,3.75) G22(-18,3.75) G23(-20,3.75) G24(-22,3.75) G25(-24,3.75) H1(24,5.25) H2(22,5.25) H3(20,5.25) H4(18,5.25) H5(16,5.25) H6(14,5.25) H7(12,5.25) H8(10,5.25) H9(8,5.25) H10(6,5.25) H11(4,5.25) H12(2,5.25) H13(0,5.25) H14(-2,5.25) H15(-4,5.25) H16(-6,5.25) H17(-8,5.25) H18(-10,5.25) H19(-12,5.25) H20(-14,5.25) H21(-16,5.25) H22(-18,5.25) H23(-20,5.25) H24(-22,5.25) H25(-24,5.25)
Top Overlay:
  lines w0.2: -25,-6.75 -25,6.85 25,6.85 25,-6.75 -25,-6.75
  text "1" at 23.75,-8.725 h1.5
  text "25" at -25.25,-8.725 h1.5
  text "a" at -26.475,-5.75 h1.5
  text "b" at -27.925,-4.25 h1.5
  text "c" at -26.475,-2.75 h1.5
  text "e" at -26.475,0.25 h1.5
  text "g" at -26.475,3.238 h1.5
  text "d" at -27.925,-1.25 h1.5
  text "f" at -27.925,1.475 h1.5
  text "h" at -27.925,4.75 h1.5